# Altium footprint library discrete.PcbLib: 24 footprints (part 1 of 2)
Each footprint in its own frame and in the unit in brackets; x right, y up, seen from the top. Pads: shape width x height; smd on the part's side, far side on the other; paste and mask are expansions set on the pad; w line width, h text height; cw(c..) or ccw(c..) is an arc to the next point about the centre after c.
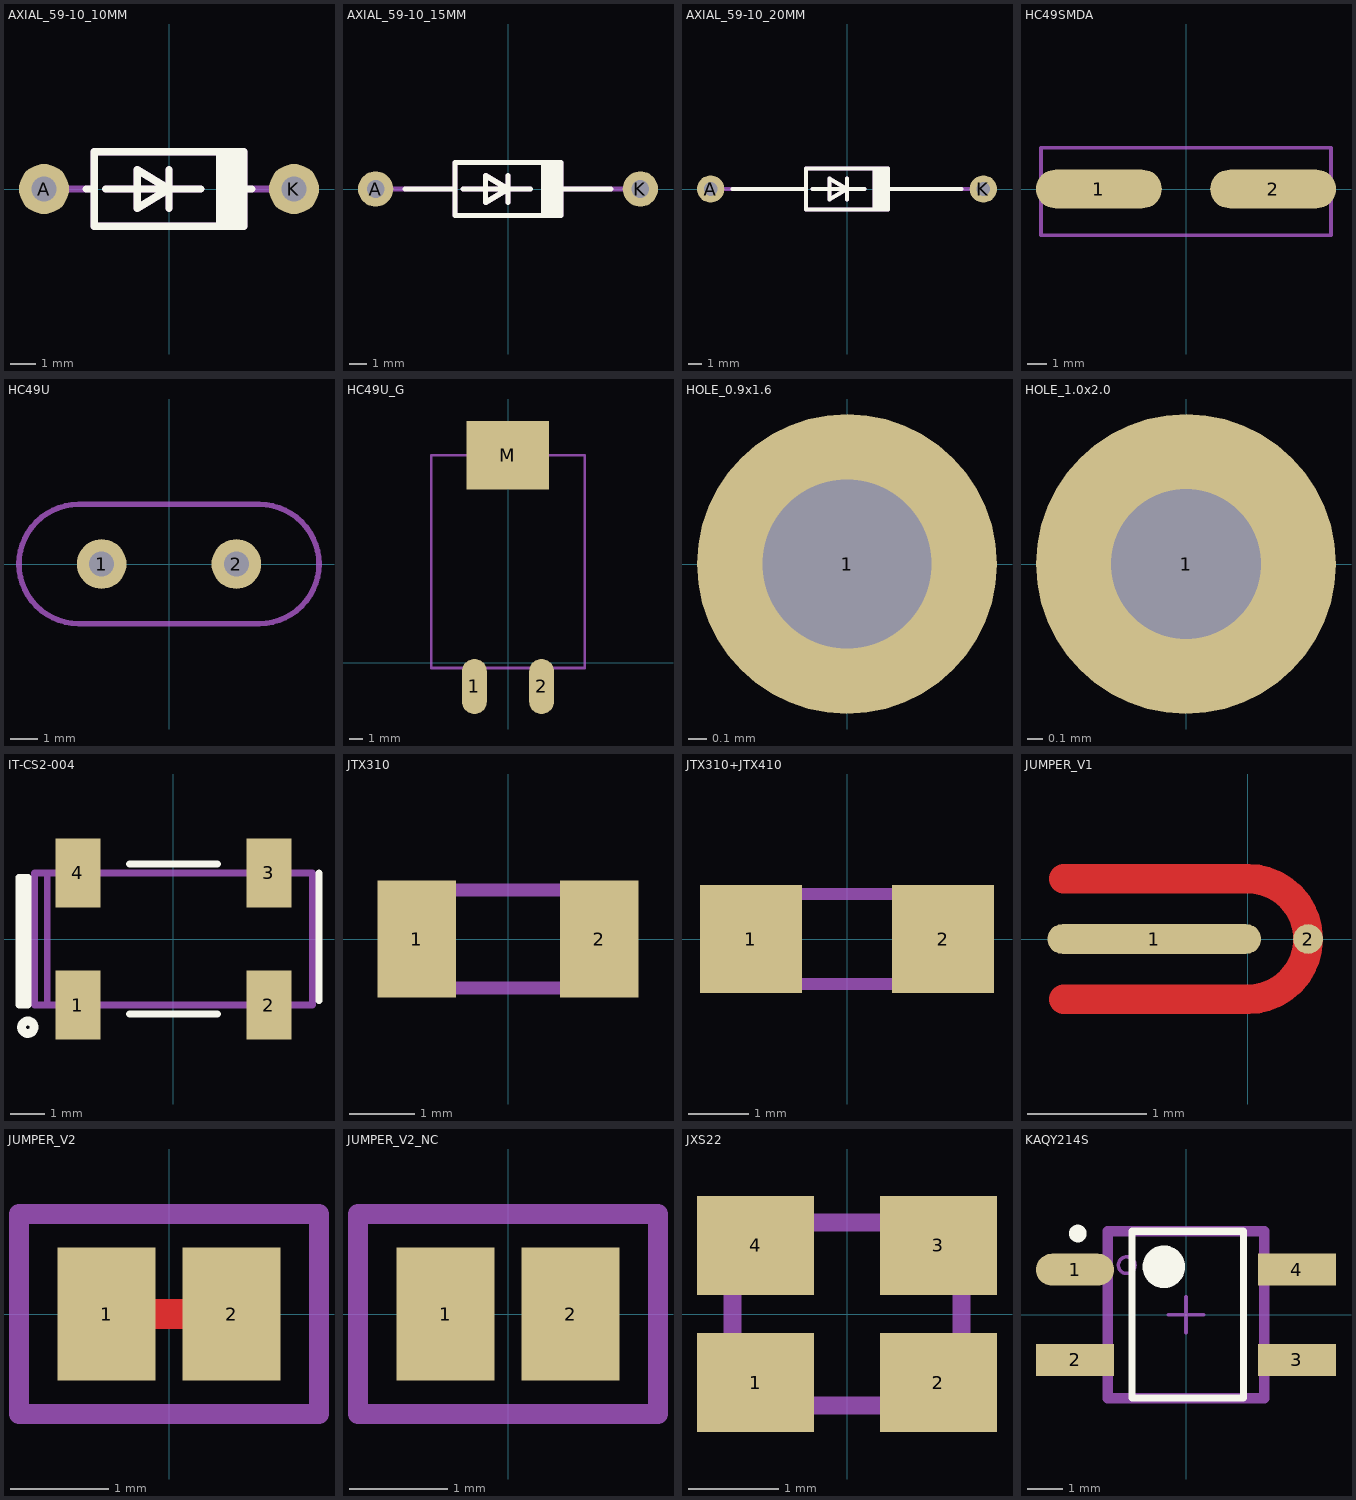
[diagram p0: the footprints below, top view; thin cyan lines are the x and y axes]

## AXIAL_59-10_10MM [mm] "1N4004 Rectifier"
pads (2):
  round 2 hole 1: A(-5,0) K(5,0)
Top Overlay:
  lines w0.3: -3.302,0 -3,0 ; -2.54,0 1.27,0 ; 0,-0.762 0,0.762 ; 2.032,1.5 2.032,-1.5 2.286,-1.5 2.286,1.5 2.54,1.5 2.54,-1.5 2.794,-1.5 2.794,1.5 ; 3,0 3.302,0 ; -3,-1.5 -3,1.5 3,1.5 3,-1.5 -3,-1.5 ; -1.27,-0.762 0,0 -1.27,0.762 -1.27,-0.762
Mechanical 13:
  lines w0.3: -5,0 -3,0 -3.302,0 ; -2.54,0 1.27,0 ; 0,-0.762 0,0.762 ; 2.032,1.5 2.032,-1.5 2.286,-1.5 2.286,1.5 2.54,1.5 2.54,-1.5 2.794,-1.5 2.794,1.5 ; 2.794,0 5,0 ; 3,0 3.302,0 ; -3,-1.5 3,-1.5 3,1.5 -3,1.5 -3,-1.5 ; -1.27,-0.762 -1.27,0.762 0,0 -1.27,-0.762
  text ".Designator" at -3.048,2.032 h1.5

## AXIAL_59-10_15MM [mm] "1N4004 Rectifier"
pads (2):
  round 2 hole 1: A(-7.5,0) K(7.5,0)
Top Overlay:
  lines w0.3: -5.842,0 -3,0 ; -2.54,0 1.27,0 ; 0,-0.762 0,0.762 ; 2.032,1.5 2.032,-1.5 2.286,-1.5 2.286,1.5 2.54,1.5 2.54,-1.5 2.794,-1.5 2.794,1.5 ; 3,0 5.842,0 ; -3,-1.5 3,-1.5 3,1.5 -3,1.5 -3,-1.5 ; -1.27,-0.762 -1.27,0.762 0,0 -1.27,-0.762
Mechanical 13:
  lines w0.3: -7.5,0 -3,0 ; -2.54,0 1.27,0 ; 0,-0.762 0,0.762 ; 2.032,1.5 2.032,-1.5 2.286,-1.5 2.286,1.5 2.54,1.5 2.54,-1.5 2.794,-1.5 2.794,1.5 ; 2.794,0 7.5,0 ; -3,-1.5 3,-1.5 3,1.5 -3,1.5 -3,-1.5 ; -1.27,-0.762 -1.27,0.762 0,0 -1.27,-0.762
  text ".Designator" at -3.048,2.032 h1.5

## AXIAL_59-10_20MM [mm] "1N4004 Rectifier"
pads (2):
  round 2 hole 1: A(-10,0) K(10,0)
Top Overlay:
  lines w0.3: -8.382,0 -3,0 ; -2.54,0 1.27,0 ; 0,-0.762 0,0.762 ; 2.032,1.5 2.032,-1.5 2.286,-1.5 2.286,1.5 2.54,1.5 2.54,-1.5 2.794,-1.5 2.794,1.5 ; 3,0 8.382,0 ; -3,-1.5 3,-1.5 3,1.5 -3,1.5 -3,-1.5 ; -1.27,-0.762 -1.27,0.762 0,0 -1.27,-0.762
Mechanical 13:
  lines w0.3: -10,0 -3,0 ; -2.54,0 1.27,0 ; 0,-0.762 0,0.762 ; 2.032,1.5 2.032,-1.5 2.286,-1.5 2.286,1.5 2.54,1.5 2.54,-1.5 2.794,-1.5 2.794,1.5 ; 2.794,0 10,0 ; -3,-1.5 3,-1.5 3,1.5 -3,1.5 -3,-1.5 ; -1.27,-0.762 -1.27,0.762 0,0 -1.27,-0.762
  text ".Designator" at -3.048,2.032 h1.5

## HC49SMDA [mm]
pads (2):
  oval 6.5x2 smd: 1(-4.5,0) 2(4.5,0)
Mechanical 13:
  lines w0.2: -7.493,-2.388 -7.493,2.134 7.493,2.134 7.493,-2.388 -7.493,-2.388
  text ".Designator" at -3.378,2.946 h1.5
3D body: height 2.52, standoff 0, extent -7.5,-2.362 7.5,2.138

## HC49U [mm]
pads (2):
  round 1.8 hole 0.9: 1(-2.44,0) 2(2.44,0)
Mechanical 13:
  lines w0.2: -5.436,0 ccw(c-3.277,0) -3.277,-2.159 3.277,-2.159 ccw(c3.277,0) 5.436,0 ccw(c3.277,0) 3.277,2.159 -3.277,2.159 ccw(c-3.277,0) -5.436,0
  text ".Designator" at -2.134,2.565 h1.5
3D body: height 13.49, standoff -1.97, extent -5.584,-2.336 5.588,2.336

## HC49U_G [mm]
pads (3):
  oval 1.8x4 smd: 1(-2.44,-1.727) 2(2.44,-1.727)
  rect 6x5 smd: M(-0.025,15.088)
Mechanical 13:
  lines w0.2: -5.588,-0.381 -5.588,15.088 5.588,15.088 5.588,-0.381 -5.588,-0.381
  text ".Designator" at -2.134,2.565 h1.5
3D body: height 4.52, standoff -0.15, extent -5.586,-0.381 5.586,15.079

## HOLE_0.9x1.6 [mm]
pads (1):
  round 1.6 hole 0.9: 1(0,0)
Mechanical 13:
  text ".Designator" at -0.559,1.372 h1.5

## HOLE_1.0x2.0 [mm]
pads (1):
  round 2 hole 1: 1(0,0)
Mechanical 13:
  text ".Designator" at -0.559,1.372 h1.5

## IT-CS2-004 [mm] "NDK Tuning fork crystal"
pads (4):
  rect 1.3x2 smd: 1(-2.75,-1.9) 2(2.75,-1.9) 3(2.75,1.9) 4(-2.75,1.9)
Top Overlay:
  circle w0.254: c-4.191,-2.54 r0.18
  lines w0.2: -4.318,-1.905 -4.318,1.778 ; -1.27,-2.159 1.27,-2.159 ; -1.27,2.159 1.27,2.159 ; 4.191,-1.778 4.191,1.905 ; -4.445,-1.905 -4.191,-1.905 -4.191,1.778 -4.445,1.778 -4.445,-1.905
Mechanical 13:
  lines w0.2: -3.632,-1.9 -3.632,1.9 ; -4,-1.9 -4,1.9 4,1.9 4,-1.9 -4,-1.9
  text ".Designator" at -1.27,-0.762 h2.5
3D body: height 2.5, standoff 0, extent -3.999,-1.899 3.937,1.899

## JTX310 [mm]
pads (2):
  rect 1.2x1.8 smd: 1(-1.4,0) 2(1.4,0)
Mechanical 13:
  lines w0.2: -1.6,-0.75 -1.6,0.75 1.6,0.75 1.6,-0.75 -1.6,-0.75
  text ".Designator" at -1.778,1.397 h2.5
3D body: height 1, standoff 0, extent -1.599,-0.749 1.599,0.749

## JTX310+JTX410 [mm]
pads (2):
  rect 1.7x1.8 smd: 1(-1.6,0) 2(1.6,0)
Mechanical 13:
  lines w0.2: -1.6,-0.75 1.6,-0.75 1.6,0.75 -1.6,0.75 -1.6,-0.75
  text ".Designator" at -1.651,1.397 h2.5
3D body: height 1, standoff 0, extent -1.599,-0.749 1.599,0.749

## JUMPER_V1 [mm]
pads (2):
  oval 1.8x0.25 smd: 1(-0.787,0)
  round 0.25 smd: 2(0.508,0)
Top Layer:
  lines w0.25: -1.549,-0.508 0,-0.508 ccw(c0,0) 0.508,0 ccw(c0,0) 0,0.508 -1.549,0.508
Top Solder:
  region: 0,0.743 0.192,0.718 0.371,0.643 0.525,0.525 0.643,0.371 0.718,0.192 0.743,0 0.718,-0.192 0.643,-0.371 0.525,-0.525 0.371,-0.643 0.192,-0.718 0,-0.743 0,-0.737 -1.549,-0.741 -1.639,-0.723 -1.714,-0.673 -1.765,-0.597 -1.782,-0.508 -1.778,-0.508 -1.782,0.508 -1.765,0.597 -1.714,0.673 -1.639,0.723 -1.549,0.741 -1.549,0.737

## JUMPER_V2 [mm]
pads (2):
  rect 1x1.35 smd mask-1: 1(-0.635,0) 2(0.635,0)
Top Layer:
  lines w0.3: -0.254,0 0.381,0
Top Solder:
  rectangle: -1.27,-0.762 1.27,0.762
  text ".Designator" at -1.27,1.27 h1.5
Mechanical 1:
  text ".Designator" at -1.143,-2.032 h1.52
Mechanical 13:
  lines w0.2: -1.524,-1.016 1.524,-1.016 1.524,1.016 -1.524,1.016 -1.524,-1.016

## JUMPER_V2_NC [mm]
pads (2):
  rect 1x1.35 smd mask-1: 1(-0.635,0) 2(0.635,0)
Top Solder:
  rectangle: -1.27,-0.762 1.27,0.762
  text ".Designator" at -1.27,1.27 h1.5
Mechanical 1:
  text ".Designator" at -1.143,-2.032 h1.52
Mechanical 13:
  lines w0.2: -1.524,-1.016 1.524,-1.016 1.524,1.016 -1.524,1.016 -1.524,-1.016

## JXS22 [mm]
pads (4):
  rect 1.3x1.1 smd: 1(-1.016,-0.762) 2(1.016,-0.762) 3(1.016,0.762) 4(-1.016,0.762)
Mechanical 13:
  lines w0.2: -1.27,-1.016 -1.27,1.016 0,1.016 1.27,1.016 1.27,-1.016 -1.27,-1.016
  text ".Designator" at -1.651,1.524 h2.5
3D body: height 0.55, standoff 0, extent -1.27,-1.016 1.27,1.016

## KAQY214S [mm]
height 2.35
pads (4):
  oval 2.2x0.9 smd: 1(-3.125,1.27)
  rect 2.2x0.9 smd: 2(-3.125,-1.27) 3(3.125,-1.27) 4(3.125,1.27)
Top Overlay:
  circle w0.6: c-0.625,1.35 r0.3
  circle w0.25: c-3.046,2.286 r0.125
  lines w0.2: -1.524,-2.35 1.625,-2.35 1.625,2.35 -1.524,2.35 -1.524,-2.35
Mechanical 13:
  circle w0.1: c-1.671,1.397 r0.234
  lines w0.3: -2.2,-2.35 2.2,-2.35 2.2,2.35 -2.2,2.35 -2.2,-2.35
  text ".Designator" at -0.508,1.651 h1.5
Mechanical 15:
  lines w0.1: -0.5,0 0.5,0 ; 0,-0.5 0,0.5
3D body: height 2.4, standoff -0.03, extent -3.422,-2.35 3.378,2.35